# EAGLE library part CC2 (library NR_IC)
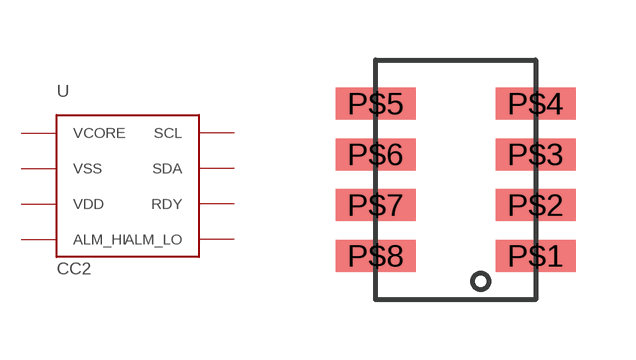
[diagram p9: symbol with the pads of CC2; footprint CC2]

Designator prefix U

## CC2  [CC2]
P$1  ALM_LO
P$2  RDY
P$3  SDA
P$4  SCL
P$5  VCORE  pwr
P$6  VSS  pwr
P$7  VDD  pwr
P$8  ALM_HI

## Footprint CC2 (pad centres in mm)
smd 2 x 0.8: P$1 2,-1.905; P$2 2,-0.635; P$3 2,0.635; P$4 2,1.905; P$5 -2,1.905; P$6 -2,0.635; P$7 -2,-0.635; P$8 -2,-1.905